# Altium schematic symbol library 线性稳压器.SchLib: 4 symbols
Pins are listed as number, name and electrical type; pins without a type are passive.

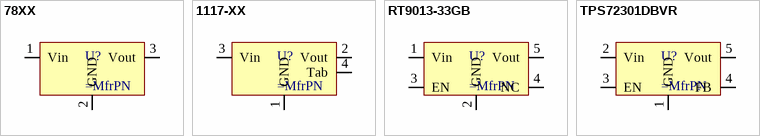
[diagram p0: symbols 78XX to TPS72301DBVR]

## 78XX
designator U?
pins: 1 Vin, 2 GND, 3 Vout

## 1117-XX
designator U?
pins: 1 GND, 2 Vout, 3 Vin, 4 Tab

## RT9013-33GB
designator U?
pins: 1 Vin, 2 GND, 3 EN, 4 NC, 5 Vout

## TPS72301DBVR
designator U?
pins: 1 GND, 2 Vin, 3 EN, 4 FB, 5 Vout